# Altium footprint library PCB - RF MODULE - U-BLOX SARA-R4.PcbLib: 1 footprints
Each footprint in its own frame and in the unit in brackets; x right, y up, seen from the top. Pads: shape width x height; smd on the part's side, far side on the other; paste and mask are expansions set on the pad; w line width, h text height; cw(c..) or ccw(c..) is an arc to the next point about the centre after c.
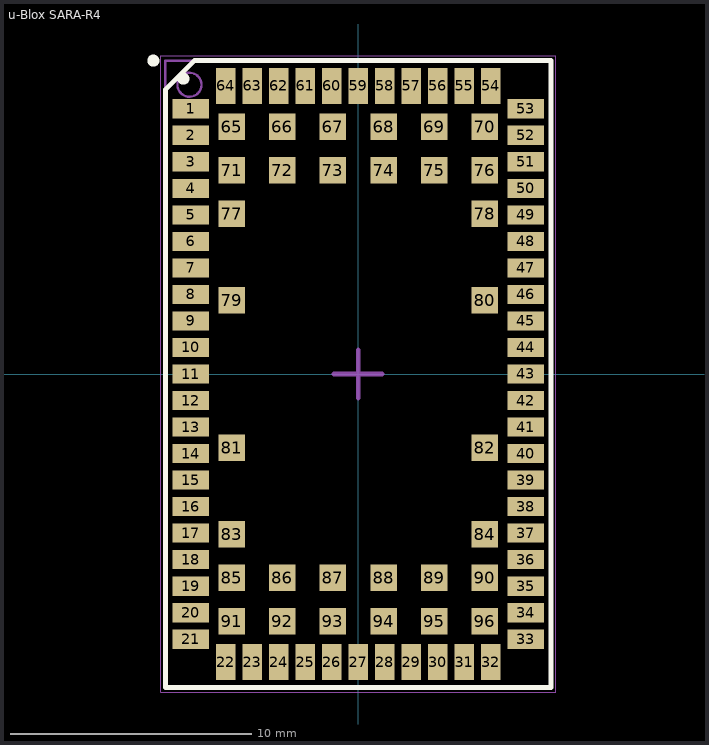
[diagram p0: the footprint, top view; thin cyan lines are the x and y axes]

## u-Blox SARA-R4 [mm] "SARA-R4 series, 96-SMD Module, Body 26.0x16.0mm"
height 2.78
pads (96):
  rect 1.5x0.8 smd paste-1 mask+0.05: 1(-6.95,11) 2(-6.95,9.9) 3(-6.95,8.8) 4(-6.95,7.7) 5(-6.95,6.6) 6(-6.95,5.5) 7(-6.95,4.4) 8(-6.95,3.3) 9(-6.95,2.2) 10(-6.95,1.1) 11(-6.95,0) 12(-6.95,-1.1) 13(-6.95,-2.2) 14(-6.95,-3.3) 15(-6.95,-4.4) 16(-6.95,-5.5) 17(-6.95,-6.6) 18(-6.95,-7.7) 19(-6.95,-8.8) 20(-6.95,-9.9) 21(-6.95,-11) 33(6.95,-11) 34(6.95,-9.9) 35(6.95,-8.8) 36(6.95,-7.7) 37(6.95,-6.6) 38(6.95,-5.5) 39(6.95,-4.4) 40(6.95,-3.3) 41(6.95,-2.2) 42(6.95,-1.1) 43(6.95,0) 44(6.95,1.1) 45(6.95,2.2) 46(6.95,3.3) 47(6.95,4.4) 48(6.95,5.5) 49(6.95,6.6) 50(6.95,7.7) 51(6.95,8.8) 52(6.95,9.9) 53(6.95,11)
  rect 0.8x1.5 smd paste-1 mask+0.05: 22(-5.5,-11.95) 23(-4.4,-11.95) 24(-3.3,-11.95) 25(-2.2,-11.95) 26(-1.1,-11.95) 27(0,-11.95) 28(1.1,-11.95) 29(2.2,-11.95) 30(3.3,-11.95) 31(4.4,-11.95) 32(5.5,-11.95) 54(5.5,11.95) 55(4.4,11.95) 56(3.3,11.95) 57(2.2,11.95) 58(1.1,11.95) 59(0,11.95) 60(-1.1,11.95) 61(-2.2,11.95) 62(-3.3,11.95) 63(-4.4,11.95) 64(-5.5,11.95)
  rect 1.1x1.1 smd paste-0.025 mask+0.05: 65(-5.25,10.25) 66(-3.15,10.25) 67(-1.05,10.25) 68(1.05,10.25) 69(3.15,10.25) 70(5.25,10.25) 71(-5.25,8.45) 72(-3.15,8.45) 73(-1.05,8.45) 74(1.05,8.45) 75(3.15,8.45) 76(5.25,8.45) 77(-5.25,6.65) 78(5.25,6.65) 79(-5.25,3.05) 80(5.25,3.05) 81(-5.25,-3.05) 82(5.25,-3.05) 83(-5.25,-6.65) 84(5.25,-6.65) 85(-5.25,-8.45) 86(-3.15,-8.45) 87(-1.05,-8.45) 88(1.05,-8.45) 89(3.15,-8.45) 90(5.25,-8.45) 91(-5.25,-10.25) 92(-3.15,-10.25) 93(-1.05,-10.25) 94(1.05,-10.25) 95(3.15,-10.25) 96(5.25,-10.25)
Top Overlay:
  circle w0.4: c-8.5,13 r0.05
  circle w0.4: c-7.25,12.25 r0.05
  lines w0.2: -8,-13 -8,11.8 -6.8,13 8,13 8,-13 -8,-13
Top Paste:
  rectangle: -7.775,10.625 -6.225,11.375
  rectangle: -7.775,9.525 -6.225,10.275
  rectangle: -7.775,8.425 -6.225,9.175
  rectangle: -7.775,7.325 -6.225,8.075
  rectangle: -7.775,6.225 -6.225,6.975
  rectangle: -7.775,5.125 -6.225,5.875
  rectangle: -7.775,4.025 -6.225,4.775
  rectangle: -7.775,2.925 -6.225,3.675
  rectangle: -7.775,1.825 -6.225,2.575
  rectangle: -7.775,0.725 -6.225,1.475
  rectangle: -7.775,-0.375 -6.225,0.375
  rectangle: -7.775,-1.475 -6.225,-0.725
  rectangle: -7.775,-2.575 -6.225,-1.825
  rectangle: -7.775,-3.675 -6.225,-2.925
  rectangle: -7.775,-4.775 -6.225,-4.025
  rectangle: -7.775,-5.875 -6.225,-5.125
  rectangle: -7.775,-6.975 -6.225,-6.225
  rectangle: -7.775,-8.075 -6.225,-7.325
  rectangle: -7.775,-9.175 -6.225,-8.425
  rectangle: -7.775,-10.275 -6.225,-9.525
  rectangle: -7.775,-11.375 -6.225,-10.625
  region: -5.125,-12.775 -5.125,-11.225 -5.875,-11.225 -5.875,-12.775
  region: -4.025,-12.775 -4.025,-11.225 -4.775,-11.225 -4.775,-12.775
  region: -2.925,-12.775 -2.925,-11.225 -3.675,-11.225 -3.675,-12.775
  region: -1.825,-12.775 -1.825,-11.225 -2.575,-11.225 -2.575,-12.775
  region: -0.725,-12.775 -0.725,-11.225 -1.475,-11.225 -1.475,-12.775
  region: 0.375,-12.775 0.375,-11.225 -0.375,-11.225 -0.375,-12.775
  region: 1.475,-12.775 1.475,-11.225 0.725,-11.225 0.725,-12.775
  region: 2.575,-12.775 2.575,-11.225 1.825,-11.225 1.825,-12.775
  region: 3.675,-12.775 3.675,-11.225 2.925,-11.225 2.925,-12.775
  region: 4.775,-12.775 4.775,-11.225 4.025,-11.225 4.025,-12.775
  region: 5.875,-12.775 5.875,-11.225 5.125,-11.225 5.125,-12.775
  rectangle: 6.225,-11.375 7.775,-10.625
  rectangle: 6.225,-10.275 7.775,-9.525
  rectangle: 6.225,-9.175 7.775,-8.425
  rectangle: 6.225,-8.075 7.775,-7.325
  rectangle: 6.225,-6.975 7.775,-6.225
  rectangle: 6.225,-5.875 7.775,-5.125
  rectangle: 6.225,-4.775 7.775,-4.025
  rectangle: 6.225,-3.675 7.775,-2.925
  rectangle: 6.225,-2.575 7.775,-1.825
  rectangle: 6.225,-1.475 7.775,-0.725
  rectangle: 6.225,-0.375 7.775,0.375
  rectangle: 6.225,0.725 7.775,1.475
  rectangle: 6.225,1.825 7.775,2.575
  rectangle: 6.225,2.925 7.775,3.675
  rectangle: 6.225,4.025 7.775,4.775
  rectangle: 6.225,5.125 7.775,5.875
  rectangle: 6.225,6.225 7.775,6.975
  rectangle: 6.225,7.325 7.775,8.075
  rectangle: 6.225,8.425 7.775,9.175
  rectangle: 6.225,9.525 7.775,10.275
  rectangle: 6.225,10.625 7.775,11.375
  region: 4.775,11.225 4.775,12.775 4.025,12.775 4.025,11.225
  region: 3.675,11.225 3.675,12.775 2.925,12.775 2.925,11.225
  region: 2.575,11.225 2.575,12.775 1.825,12.775 1.825,11.225
  region: 5.875,11.225 5.875,12.775 5.125,12.775 5.125,11.225
  region: 1.475,11.225 1.475,12.775 0.725,12.775 0.725,11.225
  region: 0.375,11.225 0.375,12.775 -0.375,12.775 -0.375,11.225
  region: -0.725,11.225 -0.725,12.775 -1.475,12.775 -1.475,11.225
  region: -1.825,11.225 -1.825,12.775 -2.575,12.775 -2.575,11.225
  region: -2.925,11.225 -2.925,12.775 -3.675,12.775 -3.675,11.225
  region: -4.025,11.225 -4.025,12.775 -4.775,12.775 -4.775,11.225
  region: -5.125,11.225 -5.125,12.775 -5.875,12.775 -5.875,11.225
Mechanical 13:
  circle w0.1: c-7,12 r0.5
  lines w0.1: -8,-13 -8,13 8,13 8,-13 -8,-13
Mechanical 15:
  lines w0.05: -8.2,-13.2 8.2,-13.2 8.2,13.2 -8.2,13.2 -8.2,-13.2
  lines w0.2: -1,0 1,0 ; 0,-1 0,1
3D body "U-Blox - SARA R4.step": height 3.02, standoff -0.01, extent -8,-13 8,13